# Altium footprint library Devices.PcbLib: 190 footprints (part 8 of 12)
Each footprint in its own frame and in the unit in brackets; x right, y up, seen from the top. Pads: shape width x height; smd on the part's side, far side on the other; paste and mask are expansions set on the pad; w line width, h text height; cw(c..) or ccw(c..) is an arc to the next point about the centre after c.
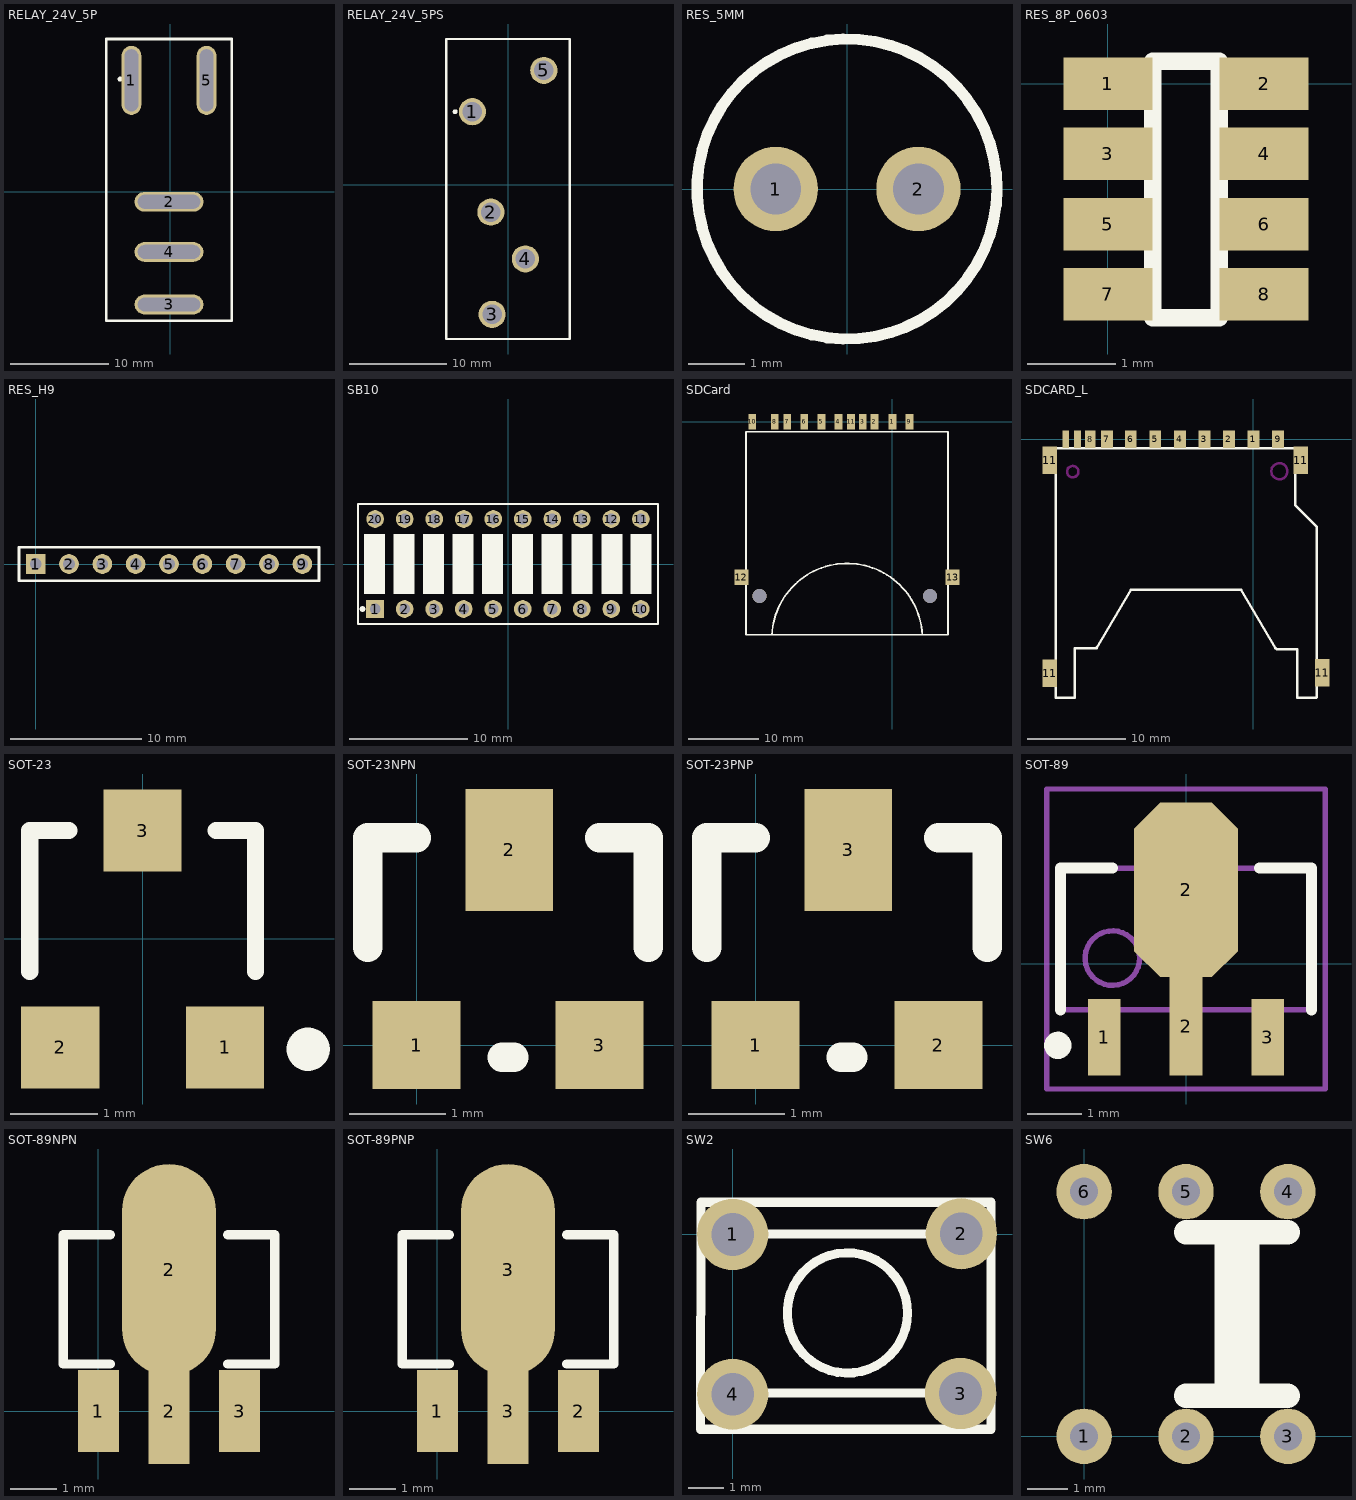
[diagram p7: the footprints below, top view; thin cyan lines are the x and y axes]

## RELAY_24V_5P [mm] "15.4mm x 19.1mm"
height 15.7
pads (5):
  oval 2x7 hole 1.4 slot 6.3 at 90 deg: 1(-3.937,11.303) 5(3.683,11.303)
  oval 7x2 hole 6.3 slot 1.4 at 90 deg: 2(-0.127,-1.016) 3(-0.127,-11.43) 4(-0.127,-6.096)
Top Overlay:
  circle w0.25: c-5.078,11.43 r0.125
  lines w0.254: -6.497,-13.081 6.223,-13.081 6.223,15.494 -6.497,15.494 -6.497,-13.081

## RELAY_24V_5PS [mm] "15.4mm x 19.1mm"
height 15.7
pads (5):
  round 2.8 hole 2: 1(-3.683,7.556) 2(-1.778,-2.794) 3(-1.651,-13.335) 4(1.778,-7.62) 5(3.683,11.811)
Top Overlay:
  circle w0.25: c-5.459,7.556 r0.125
  lines w0.254: -6.37,-15.875 -6.37,15.05 6.35,15.05 6.35,-15.875 -6.37,-15.875

## RES_5MM [mm] "光敏电阻"
height 8
pads (2):
  round 1.5 hole 0.9: 1(-1.27,0) 2(1.27,0)
Top Overlay:
  circle w0.2: c0,0 r2.667

## RES_8P_0603 [mm] "贴片排阻4组8脚"
pads (8):
  rect 1.016x0.6 smd: 1(0,0) 2(1.778,0) 3(0,-0.8) 4(1.778,-0.8) 5(0,-1.6) 6(1.778,-1.6) 7(0,-2.4) 8(1.778,-2.4)
Top Overlay:
  lines w0.2: 0.508,-2.667 0.508,0.254 1.27,0.254 1.27,-2.667 0.508,-2.667

## RES_H9 [mm] "直插排阻8组9脚"
pads (9):
  rect 1.5x1.5 hole 0.9: 1(0,0)
  round 1.5 hole 0.9: 2(2.54,0) 3(5.08,0) 4(7.62,0) 5(10.16,0) 6(12.7,0) 7(15.24,0) 8(17.78,0) 9(20.32,0)
Top Overlay:
  lines w0.2: -1.27,-1.27 -1.27,1.27 21.59,1.27 21.59,-1.27 -1.27,-1.27

## SB10 [mm]
height 7.8
pads (20):
  rect 1.5x1.5 hole 0.9: 1(-11.252,-3.81)
  round 1.5 hole 0.9: 2(-8.752,-3.81) 3(-6.252,-3.81) 4(-3.752,-3.81) 5(-1.252,-3.81) 6(1.248,-3.81) 7(3.748,-3.81) 8(6.248,-3.81) 9(8.748,-3.81) 10(11.248,-3.81) 11(11.252,3.81) 12(8.752,3.81) 13(6.252,3.81) 14(3.752,3.81) 15(1.252,3.81) 16(-1.248,3.81) 17(-3.748,3.81) 18(-6.248,3.81) 19(-8.748,3.81) 20(-11.248,3.81)
Top Overlay:
  circle w0.25: c-12.317,-3.81 r0.125
  rectangle: -12.192,-2.54 -10.414,2.54
  rectangle: -9.677,-2.54 -7.899,2.54
  rectangle: -7.188,-2.54 -5.41,2.54
  rectangle: -4.699,-2.54 -2.921,2.54
  rectangle: -2.184,-2.54 -0.406,2.54
  rectangle: 0.33,-2.54 2.108,2.54
  rectangle: 2.845,-2.54 4.623,2.54
  rectangle: 5.359,-2.54 7.137,2.54
  rectangle: 7.899,-2.54 9.677,2.54
  rectangle: 10.389,-2.54 12.167,2.54
  lines w0.2: -12.7,-5.08 12.7,-5.08 12.7,5.08 -12.7,5.08 -12.7,-5.08

## SDCard [mm]
pads (13):
  rect 1.1x2.2 smd: 1(0,0) 2(-2.54,0) 3(-4.191,0) 4(-7.62,0) 5(-10.033,0) 6(-12.446,0) 7(-14.859,0) 8(-16.637,0) 9(2.413,0) 10(-19.812,0) 11(-5.842,0)
  rect 2x2.2 smd: 12(-21.336,-21.971) 13(8.509,-21.971)
via -18.796,-24.638 diameter 2 hole 2
via 5.334,-24.638 diameter 2 hole 2
Top Overlay:
  lines w0.254: -17.028,-30.098 cw(c-6.401,-30.662) 4.227,-30.104 ; -20.701,-30.099 -20.701,-1.397 7.874,-1.397 7.874,-30.099 -20.701,-30.099

## SDCARD_L [mm]
pads (15):
  rect 1.2x1.8 smd: 1(0,0) 2(-2.489,0) 3(-4.983,-0.009) 4(-7.483,-0.009) 5(-9.983,-0.009) 6(-12.483,-0.009) 7(-14.908,-0.009) 9(2.517,-0.009)
  rect 1.1x1.8 smd: 8(-16.612,0)
  rect 0.7x1.8 smd: 10(-17.908,-0.009) 12(-19.101,0)
  rect 1.5x2.8 smd: 11(-20.726,-23.834) 11(-20.726,-2.143) 11(4.826,-2.143) 11(7.01,-23.784)
Top Overlay:
  lines w0.254: -18.158,-21.3 -18.158,-26.3 -20.131,-26.3 -20.131,-0.914 -20.117,-0.9 4.242,-0.9 4.242,-6.71 6.431,-8.899 6.442,-8.899 6.442,-26.273 6.415,-26.3 4.442,-26.3 4.442,-21.402 2.4,-21.402 2.242,-21.244 ; -18.107,-21.294 -16.065,-21.294 -15.907,-21.136 ; -15.958,-21.294 -12.446,-15.3 ; -12.458,-15.3 -1.258,-15.3 2.242,-21.294
Keep-Out Layer:
  circle w0.254: c2.642,-3.26 r0.82
  circle w0.254: c-18.39,-3.3 r0.58

## SOT-23 [mm] "SOT-23; 3 Leads; Body 3.0 x 2.6 mm, inc. leads (LxW max)"
height 1.1
pads (3):
  rect 0.9x0.95 smd: 1(0.95,-1.25) 2(-0.95,-1.25) 3(0,1.25)
Top Overlay:
  circle w0.25: c1.907,-1.27 r0.125
  lines w0.2: -1.3,-0.375 -1.3,1.25 -0.85,1.25 ; 0.85,1.25 1.3,1.25 1.3,-0.375

## SOT-23NPN [mil]
pads (3):
  rect 36x36 smd: 1(0,0) 3(75,0)
  rect 36x50 smd: 2(38,80)
Top Overlay:
  lines w12: -20,40 -20,85 0,85 ; 35,-5 40,-5 ; 75,85 95,85 95,40

## SOT-23PNP [mil]
pads (3):
  rect 36x36 smd: 1(0,0) 2(75,0)
  rect 36x50 smd: 3(38,80)
Top Overlay:
  lines w12: -20,40 -20,85 0,85 ; 35,-5 40,-5 ; 75,85 95,85 95,40

## SOT-89 [mm] "SOT89, 3-Leads, Body 4.5x2.4mm (max), Pitch 1.50mm, Lead Span 4.1mm, IPC Medium Density"
height 1.6
pads (4):
  rect 0.6x1.4 smd: 1(-1.5,-1.35) 3(1.5,-1.35)
  rect 0.6x1.8 smd: 2(0,-1.15)
  oct 1.9x3.2 smd: 2(0,1.35)
Top Overlay:
  circle w0.25: c-2.35,-1.5 r0.125
  lines w0.2: -2.3,-0.85 -2.3,1.75 -1.35,1.75 ; 1.35,1.75 2.3,1.75 2.3,-0.85
Mechanical 13:
  circle w0.1: c-1.35,0.1 r0.5
  lines w0.1: -2.3,-0.85 2.3,-0.85 2.3,1.75 -2.3,1.75 -2.3,-0.85
Mechanical 15:
  lines w0.1: -0.5,0.45 0.5,0.45 ; 0,-0.05 0,0.95 ; -2.55,-2.3 2.55,-2.3 2.55,3.2 -2.55,3.2 -2.55,-2.3
3D body: height 1.6, standoff 0, extent -2.3,-0.85 2.3,1.75

## SOT-89NPN [mil]
pads (4):
  rect 35x70 smd: 1(0,0) 3(120,0)
  rect 35x90 smd: 2(60,0)
  oval 80x180 smd: 2(60,120)
Top Overlay:
  lines w8: 10,40 -30,40 -30,150 10,150 ; 110,40 150,40 150,150 110,150

## SOT-89PNP [mil]
pads (4):
  rect 35x70 smd: 1(0,0) 2(120,0)
  rect 35x90 smd: 3(60,0)
  oval 80x180 smd: 3(60,120)
Top Overlay:
  lines w8: 10,40 -30,40 -30,150 10,150 ; 110,40 150,40 150,150 110,150

## SW2 [mm]
pads (4):
  round 2 hole 1.2: 1(0,0) 2(6.41,0.02) 3(6.39,-4.46) 4(0,-4.48)
Top Overlay:
  circle w0.254: c3.214,-2.2 r1.686
  lines w0.254: 0.079,0.013 6.683,0.013 ; 0.163,-4.44 6.64,-4.44 ; -0.896,-5.46 -0.885,0.902 7.239,0.902 7.239,-5.46 -0.896,-5.46

## SW6 [mm]
pads (6):
  round 1.38 hole 0.7: 1(0,0) 2(2.54,0) 3(5.08,0) 4(5.08,6.096) 5(2.54,6.096) 6(0,6.096)
Top Overlay:
  lines w0.61: 2.54,1.016 5.08,1.016 ; 2.54,5.08 5.08,5.08 ; 3.556,1.016 3.556,4.826 ; 4.064,1.016 4.064,5.08